# Altium schematic symbol library AP62250WU-7.SchLib: 1 symbol
Pins are listed as number, name and electrical type; pins without a type are passive.

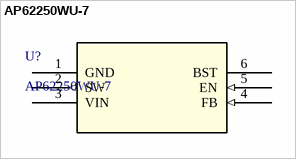
[diagram p0: symbol AP62250WU-7]

## AP62250WU-7
designator U?
No Description Available; Manufacturer_Name: Diodes Inc; Copyright: Copyright (C) 2026 Ultra Librarian. All rights reserved.; Manufacturer_Part_Number: AP62250WU-7; RefDes: RefDes; Type: Type
footprint TSOT26STANDARD_DIO
pins: 1 GND (power), 2 SW (out), 3 VIN (power), 4 FB (in), 5 EN (in), 6 BST (power)